# Altium schematic symbol library transistor.SCHLIB: 219 symbols
Pins are listed as number, name and electrical type; pins without a type are passive.

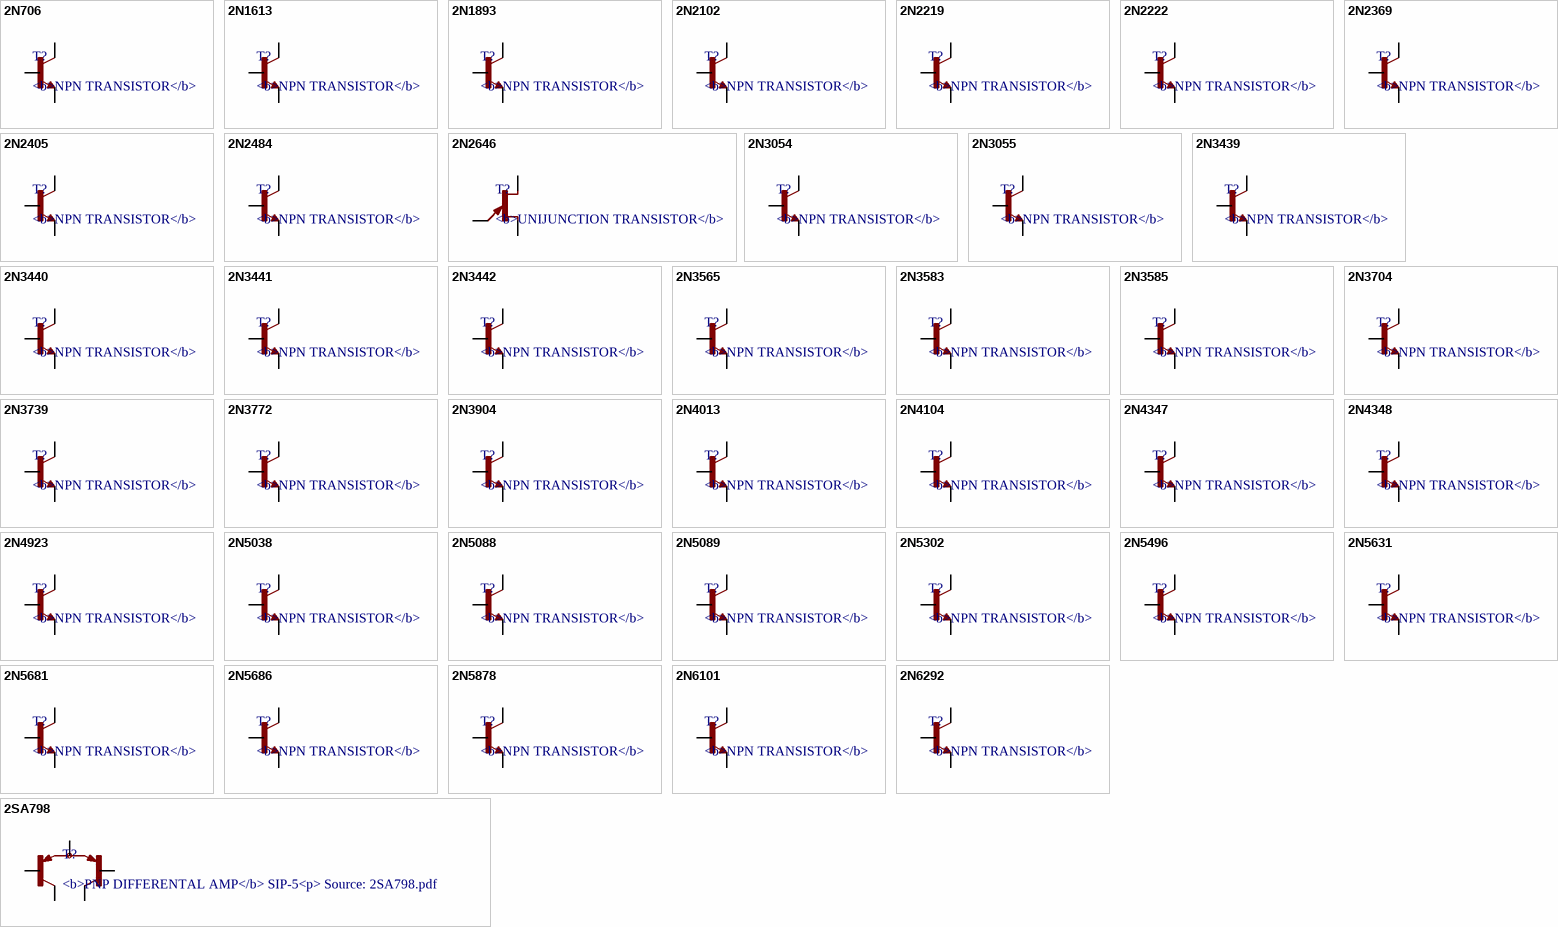
[diagram p0: symbols 2N706 to 2SA798]

## 2N706
designator T?, comment <b>NPN TRANSISTOR</b>
footprint TO18
pins: 1 E, 2 B, 3 C

## 2N1613
designator T?, comment <b>NPN TRANSISTOR</b>
footprint TO5
pins: 1 E, 2 B, 3 C

## 2N1893
designator T?, comment <b>NPN TRANSISTOR</b>
footprint TO5
pins: 1 E, 2 B, 3 C

## 2N2102
designator T?, comment <b>NPN TRANSISTOR</b>
footprint TO5
pins: 1 E, 2 B, 3 C

## 2N2219
designator T?, comment <b>NPN TRANSISTOR</b>
footprint TO5
pins: 1 E, 2 B, 3 C

## 2N2222
designator T?, comment <b>NPN TRANSISTOR</b>
footprint TO18
pins: 1 E, 2 B, 3 C

## 2N2369
designator T?, comment <b>NPN TRANSISTOR</b>
footprint TO18
pins: 1 E, 2 B, 3 C

## 2N2405
designator T?, comment <b>NPN TRANSISTOR</b>
footprint TO5
pins: 1 E, 2 B, 3 C

## 2N2484
designator T?, comment <b>NPN TRANSISTOR</b>
footprint TO18
pins: 1 E, 2 B, 3 C

## 2N2646
designator T?, comment <b>UNIJUNCTION TRANSISTOR</b>
footprint TO72
pins: 1 E, 2 B1, 4 B2

## 2N3054
designator T?, comment <b>NPN TRANSISTOR</b>
footprint TO66
pins: 1 E, 2 B, 3 TO66 C

## 2N3055
designator T?, comment <b>NPN TRANSISTOR</b>
footprint TO3
pins: B, C C/ C, E

## 2N3439
designator T?, comment <b>NPN TRANSISTOR</b>
footprint TO5
pins: 1 E, 2 B, 3 C

## 2N3440
designator T?, comment <b>NPN TRANSISTOR</b>
footprint TO5
pins: 1 E, 2 B, 3 C

## 2N3441
designator T?, comment <b>NPN TRANSISTOR</b>
footprint TO66
pins: 1 E, 2 B, 3 TO66 C

## 2N3442
designator T?, comment <b>NPN TRANSISTOR</b>
footprint TO3
pins: B, C C/ C, E

## 2N3565
designator T?, comment <b>NPN TRANSISTOR</b>
footprint TO92
pins: 1 C, 2 B, 3 E

## 2N3583
designator T?, comment <b>NPN TRANSISTOR</b>
footprint TO66
pins: 1 E, 2 B, 3 TO66 C

## 2N3585
designator T?, comment <b>NPN TRANSISTOR</b>
footprint TO66
pins: 1 E, 2 B, 3 TO66 C

## 2N3704
designator T?, comment <b>NPN TRANSISTOR</b>
footprint TO92
pins: 1 B, 2 C, 3 E

## 2N3739
designator T?, comment <b>NPN TRANSISTOR</b>
footprint TO66
pins: 1 E, 2 B, 3 TO66 C

## 2N3772
designator T?, comment <b>NPN TRANSISTOR</b>
footprint TO3
pins: B, C C/ C, E

## 2N3904
designator T?, comment <b>NPN TRANSISTOR</b>
footprint TO92
pins: 1 C, 2 B, 3 E

## 2N4013
designator T?, comment <b>NPN TRANSISTOR</b>
footprint TO18
pins: 1 E, 2 B, 3 C

## 2N4104
designator T?, comment <b>NPN TRANSISTOR</b>
footprint TO18
pins: 1 E, 2 B, 3 C

## 2N4347
designator T?, comment <b>NPN TRANSISTOR</b>
footprint TO3
pins: B, C C/ C, E

## 2N4348
designator T?, comment <b>NPN TRANSISTOR</b>
footprint TO3
pins: B, C C/ C, E

## 2N4923
designator T?, comment <b>NPN TRANSISTOR</b>
footprint TO126
pins: 1 E, 2 C, 3 B

## 2N5038
designator T?, comment <b>NPN TRANSISTOR</b>
footprint TO3
pins: B, C C/ C, E

## 2N5088
designator T?, comment <b>NPN TRANSISTOR</b>
footprint TO92
pins: 1 C, 2 B, 3 E

## 2N5089
designator T?, comment <b>NPN TRANSISTOR</b>
footprint TO92
pins: 1 C, 2 B, 3 E

## 2N5302
designator T?, comment <b>NPN TRANSISTOR</b>
footprint TO3
pins: B, C C/ C, E

## 2N5496
designator T?, comment <b>NPN TRANSISTOR</b>
footprint TO220
pins: 1 B, 2 C, 3 E

## 2N5631
designator T?, comment <b>NPN TRANSISTOR</b>
footprint TO3
pins: B, C C/ C, E

## 2N5681
designator T?, comment <b>NPN TRANSISTOR</b>
footprint TO5
pins: 1 E, 2 B, 3 C

## 2N5686
designator T?, comment <b>NPN TRANSISTOR</b>
footprint TO3
pins: B, C C/ C, E

## 2N5878
designator T?, comment <b>NPN TRANSISTOR</b>
footprint TO3
pins: B, C C/ C, E

## 2N6101
designator T?, comment <b>NPN TRANSISTOR</b>
footprint TO220
pins: 1 B, 2 C, 3 E

## 2N6292
designator T?, comment <b>NPN TRANSISTOR</b>
footprint TO220
pins: 1 B, 2 C, 3 E

## 2SA798
designator T?, comment <b>PNP DIFFERENTAL AMP</b> SIP-5<p> / Source: 2SA798.pdf
footprint SIP-5
pins: 1 C1, 2 B1, 3 E, 4 B2, 5 C2

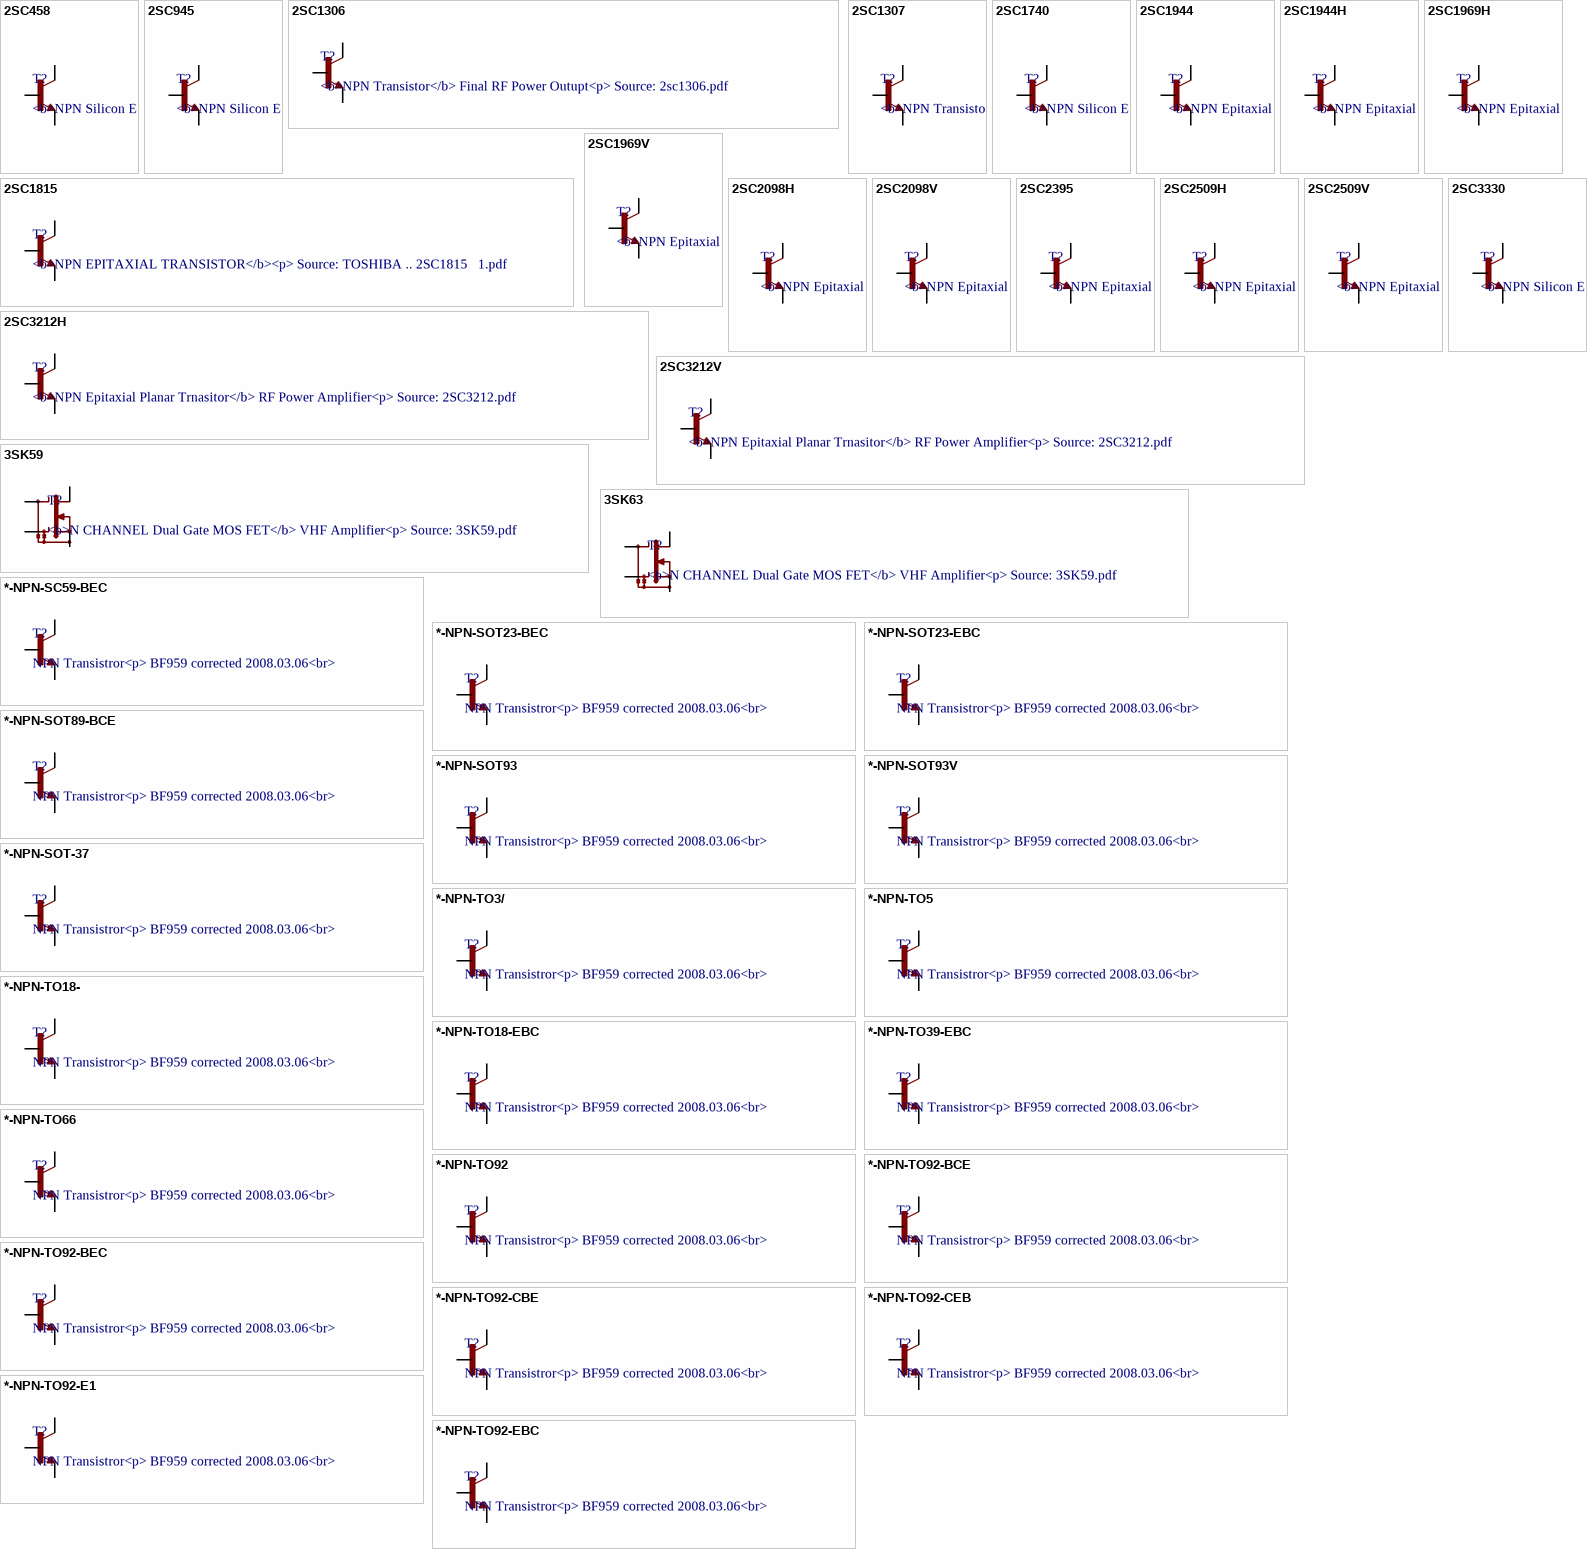
[diagram p1: symbols 2SC458 to *-NPN-TO92-EBC]

## 2SC458
designator T?, comment <b>NPN Silicon Epitaxial Planar Transistor</b><p> / Source: SEMTECH ELECTRONICS LTD. ... 2SC458  1.pdf
footprint TO92-ECB
pins: B, C, E

## 2SC945
designator T?, comment <b>NPN Silicon Epitaxial Planar Transistor</b><p> / Source: SEMTECH ELECTRONICS LTD. ... 2SC945  2.pdf
footprint TO92-ECB
pins: B, C, E

## 2SC1306
designator T?, comment <b>NPN Transistor</b> Final RF Power Outupt<p> / Source: 2sc1306.pdf
footprint TO220BV
pins: 1 B, 2 C, 3 E

## 2SC1307
designator T?, comment <b>NPN Transistor</b> Silicon Epitaxial, High Frequency Power Amplifier<p> / Source: 2SC1307.pdf
footprint TO220AV
pins: 1 B, 2 C, 3 E

## 2SC1740
designator T?, comment <b>NPN Silicon Epitaxial Planar Transistor</b><p> / Source: SEMTECH ELECTRONICS LTD. 2SC1740.pdf
footprint TO92-ECB
pins: B, C, E

## 2SC1815
designator T?, comment <b>NPN EPITAXIAL TRANSISTOR</b><p> / Source: TOSHIBA .. 2SC1815   1.pdf
footprint TO92-ECB
pins: B, C, E

## 2SC1944
designator T?, comment <b>NPN Epitaxial Planar Transistor</b> RF Power Amplifier<p> / Source: 2SC1944.pdf
footprint T-30_V
pins: 1 B, 2 C, 3 E

## 2SC1944H
designator T?, comment <b>NPN Epitaxial Planar Transistor</b> RF Power Amplifier<p> / Source: 2SC1944.pdf
footprint T-30
pins: 1 B, 2 C, 3 E

## 2SC1969H
designator T?, comment <b>NPN Epitaxial Planar Transistor</b> RF Power Amplifier<p> / Source: 2sc1969.pdf
footprint T-30
pins: 1 B, 2 C, 3 E

## 2SC1969V
designator T?, comment <b>NPN Epitaxial Planar Transistor</b> RF Power Amplifier<p> / Source: 2sc1969.pdf
footprint T-30_V
pins: 1 B, 2 C, 3 E

## 2SC2098H
designator T?, comment <b>NPN Epitaxial Planar Transistor</b> RF Power Amplivier<p> / Source: 2SC2098.pdf
footprint TO220
pins: 1 B, 2 C, 3 E

## 2SC2098V
designator T?, comment <b>NPN Epitaxial Planar Transistor</b> RF Power Amplivier<p> / Source: 2SC2098.pdf
footprint TO220AV
pins: 1 B, 2 C, 3 E

## 2SC2395
designator T?, comment <b>NPN Epitaxial Planar Transistor</b> RF Power Amplivier<p> / Source: 2SC2395.pdf
footprint 2-10H1A
pins: 1 3 E, 2 B, 4 C

## 2SC2509H
designator T?, comment <b>NPN Epitaxial Planar Transistor</b> RF Power Amplivier<p> / Source: www.Datasheet4U.com 2SC2905.pdf
footprint TO220
pins: 1 B, 2 C, 3 E

## 2SC2509V
designator T?, comment <b>NPN Epitaxial Planar Transistor</b> RF Power Amplivier<p> / Source: www.Datasheet4U.com 2SC2905.pdf
footprint TO220AV
pins: 1 B, 2 C, 3 E

## 2SC3212H
designator T?, comment <b>NPN Epitaxial Planar Trnasitor</b> RF Power Amplifier<p> / Source: 2SC3212.pdf
footprint TO220
pins: 1 B, 2 C, 3 E

## 2SC3212V
designator T?, comment <b>NPN Epitaxial Planar Trnasitor</b> RF Power Amplifier<p> / Source: 2SC3212.pdf
footprint TO220AV
pins: 1 B, 2 C, 3 E

## 2SC3330
designator T?, comment <b>NPN Silicon Epitaxial Planar Transistor</b><p> / Source: SEMTECH ELECTRONICS LTD. ... 2SC3330 .pdf
footprint TO92-ECB
pins: B, C, E

## 3SK59
designator T?, comment <b>N CHANNEL Dual Gate MOS FET</b> VHF Amplifier<p> / Source: 3SK59.pdf
footprint TO72
pins: 1 DRAIN, 2 G2, 3 G1, 4 SOURCE

## 3SK63
designator T?, comment <b>N CHANNEL Dual Gate MOS FET</b> VHF Amplifier<p> / Source: 3SK59.pdf
footprint TO72
pins: 1 DRAIN, 2 G2, 3 G1, 4 SOURCE

## *-NPN-SC59-BEC
designator T?, comment NPN Transistror<p> / BF959 corrected 2008.03.06<br>
footprint SC59-BEC
pins: B, C, E

## *-NPN-SOT23-BEC
designator T?, comment NPN Transistror<p> / BF959 corrected 2008.03.06<br>
footprint SOT23-BEC
pins: B, C, E

## *-NPN-SOT23-EBC
designator T?, comment NPN Transistror<p> / BF959 corrected 2008.03.06<br>
footprint SOT23-EBC
pins: B, C, E

## *-NPN-SOT89-BCE
designator T?, comment NPN Transistror<p> / BF959 corrected 2008.03.06<br>
footprint SOT89-BCE
pins: B, C, E

## *-NPN-SOT93
designator T?, comment NPN Transistror<p> / BF959 corrected 2008.03.06<br>
footprint SOT93
pins: B, C, E

## *-NPN-SOT93V
designator T?, comment NPN Transistror<p> / BF959 corrected 2008.03.06<br>
footprint SOT93V
pins: B, C, E

## *-NPN-SOT-37
designator T?, comment NPN Transistror<p> / BF959 corrected 2008.03.06<br>
footprint SOT37
pins: 1 C, 2 E, 3 B

## *-NPN-TO3/
designator T?, comment NPN Transistror<p> / BF959 corrected 2008.03.06<br>
footprint TO3
pins: B, C, E

## *-NPN-TO5
designator T?, comment NPN Transistror<p> / BF959 corrected 2008.03.06<br>
footprint TO5
pins: 1 E, 2 B, 3 C

## *-NPN-TO18-
designator T?, comment NPN Transistror<p> / BF959 corrected 2008.03.06<br>
footprint TO18-
pins: 1 E, 2 B, 3 C

## *-NPN-TO18-EBC
designator T?, comment NPN Transistror<p> / BF959 corrected 2008.03.06<br>
footprint TO18
pins: 1 E, 2 B, 3 C

## *-NPN-TO39-EBC
designator T?, comment NPN Transistror<p> / BF959 corrected 2008.03.06<br>
footprint TO39
pins: 1 E, 2 B, 3 C

## *-NPN-TO66
designator T?, comment NPN Transistror<p> / BF959 corrected 2008.03.06<br>
footprint TO66
pins: 1 E, 2 B, 3 C

## *-NPN-TO92
designator T?, comment NPN Transistror<p> / BF959 corrected 2008.03.06<br>
footprint TO92
pins: 1 E, 2 B, 3 C

## *-NPN-TO92-BCE
designator T?, comment NPN Transistror<p> / BF959 corrected 2008.03.06<br>
footprint TO92-BCE
pins: B, C, E

## *-NPN-TO92-BEC
designator T?, comment NPN Transistror<p> / BF959 corrected 2008.03.06<br>
footprint TO92-BEC
pins: B, C, E

## *-NPN-TO92-CBE
designator T?, comment NPN Transistror<p> / BF959 corrected 2008.03.06<br>
footprint TO92-CBE
pins: B, C, E

## *-NPN-TO92-CEB
designator T?, comment NPN Transistror<p> / BF959 corrected 2008.03.06<br>
footprint TO92-CEB
pins: B, C, E

## *-NPN-TO92-E1
designator T?, comment NPN Transistror<p> / BF959 corrected 2008.03.06<br>
footprint TO92-E1
pins: 1 C, 2 B, 3 E

## *-NPN-TO92-EBC
designator T?, comment NPN Transistror<p> / BF959 corrected 2008.03.06<br>
footprint TO92-EBC
pins: B, C, E

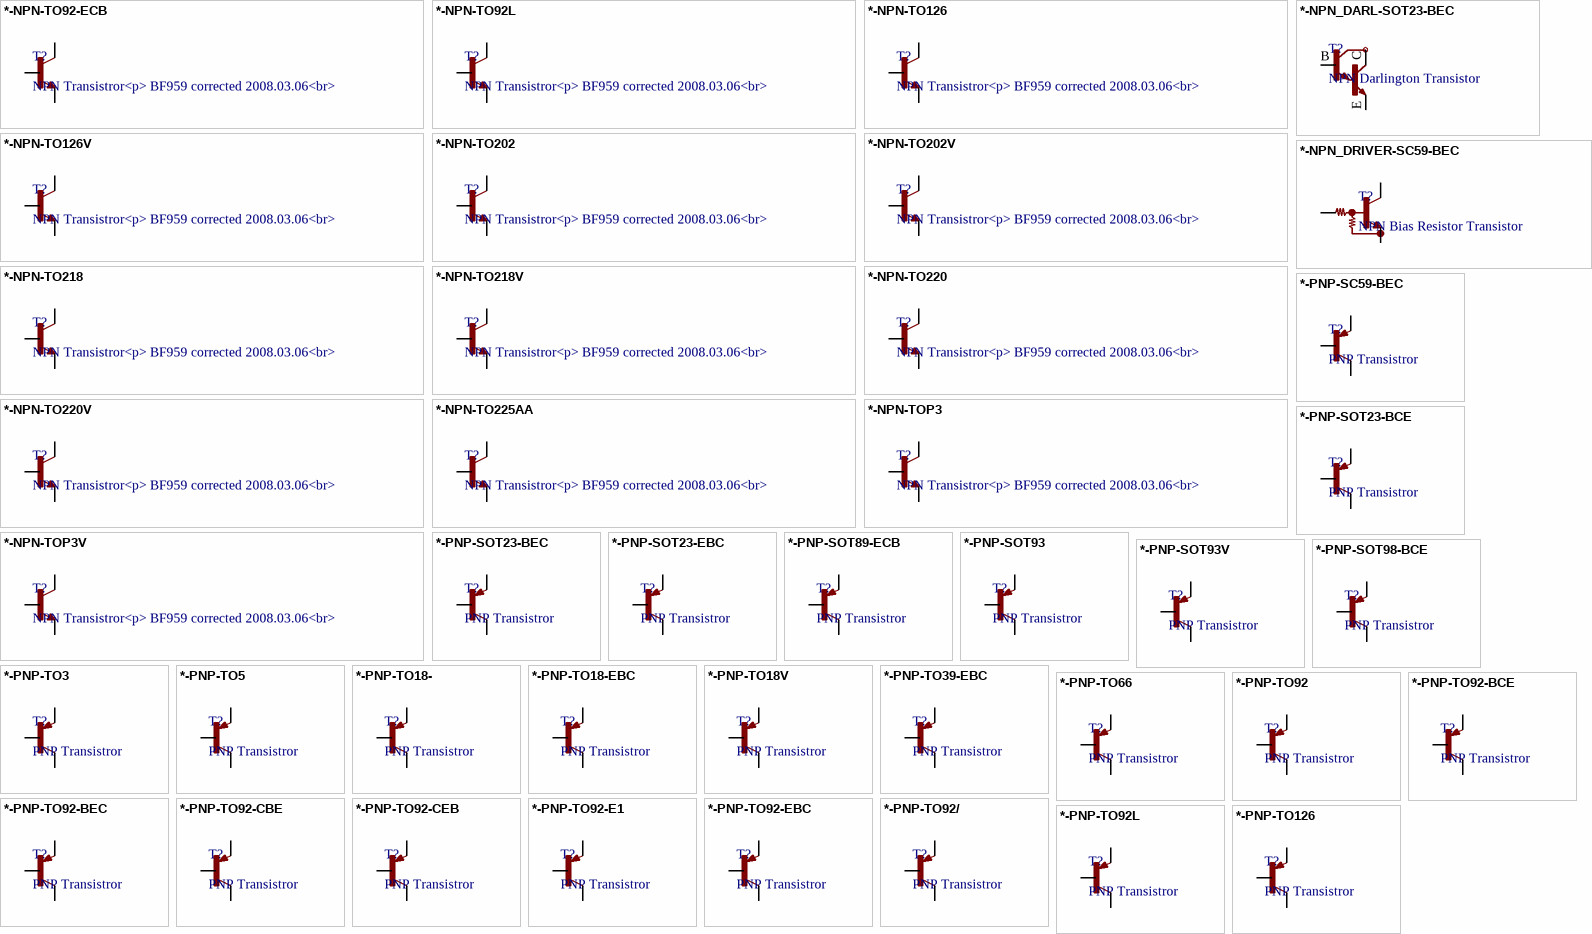
[diagram p2: symbols *-NPN-TO92-ECB to *-PNP-TO126]

## *-NPN-TO92-ECB
designator T?, comment NPN Transistror<p> / BF959 corrected 2008.03.06<br>
footprint TO92-ECB
pins: B, C, E

## *-NPN-TO92L
designator T?, comment NPN Transistror<p> / BF959 corrected 2008.03.06<br>
footprint TO92L
pins: 1 E, 2 B, 3 C

## *-NPN-TO126
designator T?, comment NPN Transistror<p> / BF959 corrected 2008.03.06<br>
footprint TO126
pins: 1 E, 2 C, 3 B

## *-NPN-TO126V
designator T?, comment NPN Transistror<p> / BF959 corrected 2008.03.06<br>
footprint TO126V
pins: 1 E, 2 C, 3 B

## *-NPN-TO202
designator T?, comment NPN Transistror<p> / BF959 corrected 2008.03.06<br>
footprint TO202
pins: 1 E, 2 C, 3 B

## *-NPN-TO202V
designator T?, comment NPN Transistror<p> / BF959 corrected 2008.03.06<br>
footprint TO202V
pins: 1 E, 2 C, 3 B

## *-NPN-TO218
designator T?, comment NPN Transistror<p> / BF959 corrected 2008.03.06<br>
footprint TO218
pins: 1 B, 2 C, 3 E

## *-NPN-TO218V
designator T?, comment NPN Transistror<p> / BF959 corrected 2008.03.06<br>
footprint TO218V
pins: 1 B, 2 C, 3 E

## *-NPN-TO220
designator T?, comment NPN Transistror<p> / BF959 corrected 2008.03.06<br>
footprint TO220
pins: 1 B, 2 C, 3 E

## *-NPN-TO220V
designator T?, comment NPN Transistror<p> / BF959 corrected 2008.03.06<br>
footprint TO220V
pins: 1 B, 2 C, 3 E

## *-NPN-TO225AA
designator T?, comment NPN Transistror<p> / BF959 corrected 2008.03.06<br>
footprint TO225AA
pins: 1 B, 2 C, 3 E

## *-NPN-TOP3
designator T?, comment NPN Transistror<p> / BF959 corrected 2008.03.06<br>
footprint TOP3
pins: 1 B, 2 C, 3 E

## *-NPN-TOP3V
designator T?, comment NPN Transistror<p> / BF959 corrected 2008.03.06<br>
footprint TOP3V
pins: B, C, E

## *-NPN_DARL-SOT23-BEC
designator T?, comment NPN Darlington Transistor
footprint SOT23-BEC
pins: B, C, E

## *-NPN_DRIVER-SC59-BEC
designator T?, comment NPN Bias Resistor Transistor
footprint SC59-BEC
pins: B, C, E

## *-PNP-SC59-BEC
designator T?, comment PNP Transistror
footprint SC59-BEC
pins: B, C, E

## *-PNP-SOT23-BCE
designator T?, comment PNP Transistror
footprint SOT23-BCE
pins: B, C, E

## *-PNP-SOT23-BEC
designator T?, comment PNP Transistror
footprint SOT23-BEC
pins: B, C, E

## *-PNP-SOT23-EBC
designator T?, comment PNP Transistror
footprint SOT23-EBC
pins: B, C, E

## *-PNP-SOT89-ECB
designator T?, comment PNP Transistror
footprint SOT89-ECB
pins: B, C, E

## *-PNP-SOT93
designator T?, comment PNP Transistror
footprint SOT93
pins: B, C, E

## *-PNP-SOT93V
designator T?, comment PNP Transistror
footprint SOT93V
pins: B, C, E

## *-PNP-SOT98-BCE
designator T?, comment PNP Transistror
footprint SOT89-BCE
pins: B, C, E

## *-PNP-TO3
designator T?, comment PNP Transistror
footprint TO3
pins: B, C, E

## *-PNP-TO5
designator T?, comment PNP Transistror
footprint TO5
pins: 1 E, 2 B, 3 C

## *-PNP-TO18-
designator T?, comment PNP Transistror
footprint TO18-
pins: 1 E, 2 B, 3 C

## *-PNP-TO18-EBC
designator T?, comment PNP Transistror
footprint TO18
pins: 1 E, 2 B, 3 C

## *-PNP-TO18V
designator T?, comment PNP Transistror
footprint TO18V
pins: 1 E, 2 B, 3 C

## *-PNP-TO39-EBC
designator T?, comment PNP Transistror
footprint TO39
pins: 1 E, 2 B, 3 C

## *-PNP-TO66
designator T?, comment PNP Transistror
footprint TO66
pins: 1 E, 2 B, 3 C

## *-PNP-TO92
designator T?, comment PNP Transistror
footprint TO92
pins: 1 E, 2 B, 3 C

## *-PNP-TO92-BCE
designator T?, comment PNP Transistror
footprint TO92-BCE
pins: B, C, E

## *-PNP-TO92-BEC
designator T?, comment PNP Transistror
footprint TO92-BEC
pins: B, C, E

## *-PNP-TO92-CBE
designator T?, comment PNP Transistror
footprint TO92-CBE
pins: B, C, E

## *-PNP-TO92-CEB
designator T?, comment PNP Transistror
footprint TO92-CEB
pins: B, C, E

## *-PNP-TO92-E1
designator T?, comment PNP Transistror
footprint TO92-E1
pins: 1 C, 2 B, 3 E

## *-PNP-TO92-EBC
designator T?, comment PNP Transistror
footprint TO92-EBC
pins: B, C, E

## *-PNP-TO92/
designator T?, comment PNP Transistror
footprint TO92/
pins: 1 E, 2 B, 3 C

## *-PNP-TO92L
designator T?, comment PNP Transistror
footprint TO92L
pins: 1 E, 2 B, 3 C

## *-PNP-TO126
designator T?, comment PNP Transistror
footprint TO126
pins: 1 E, 2 C, 3 B

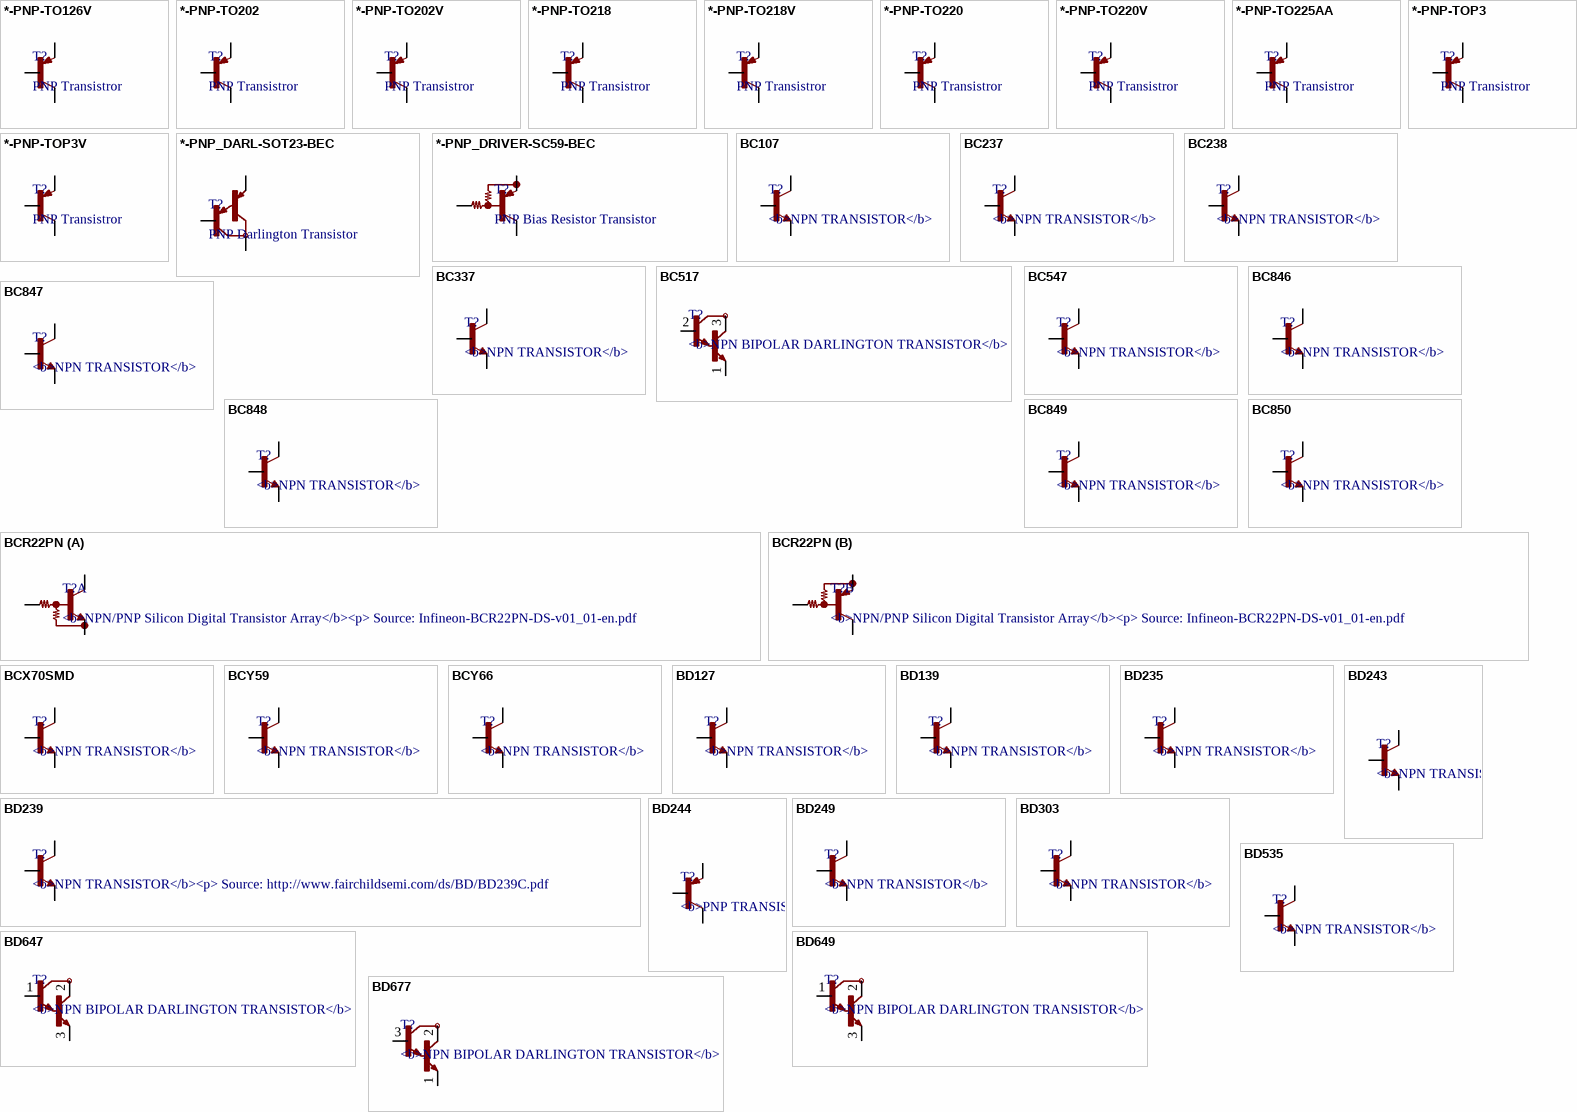
[diagram p3: symbols *-PNP-TO126V to BD677]

## *-PNP-TO126V
designator T?, comment PNP Transistror
footprint TO126V
pins: 1 E, 2 C, 3 B

## *-PNP-TO202
designator T?, comment PNP Transistror
footprint TO202
pins: 1 E, 2 C, 3 B

## *-PNP-TO202V
designator T?, comment PNP Transistror
footprint TO202V
pins: 1 E, 2 C, 3 B

## *-PNP-TO218
designator T?, comment PNP Transistror
footprint TO218
pins: 1 B, 2 C, 3 E

## *-PNP-TO218V
designator T?, comment PNP Transistror
footprint TO218V
pins: 1 B, 2 C, 3 E

## *-PNP-TO220
designator T?, comment PNP Transistror
footprint TO220
pins: 1 B, 2 C, 3 E

## *-PNP-TO220V
designator T?, comment PNP Transistror
footprint TO220V
pins: 1 B, 2 C, 3 E

## *-PNP-TO225AA
designator T?, comment PNP Transistror
footprint TO225AA
pins: 1 B, 2 C, 3 E

## *-PNP-TOP3
designator T?, comment PNP Transistror
footprint TOP3
pins: 1 B, 2 C, 3 E

## *-PNP-TOP3V
designator T?, comment PNP Transistror
footprint TOP3V
pins: B, C, E

## *-PNP_DARL-SOT23-BEC
designator T?, comment PNP Darlington Transistor
footprint SOT23-BEC
pins: B, C, E

## *-PNP_DRIVER-SC59-BEC
designator T?, comment PNP Bias Resistor Transistor
footprint SC59-BEC
pins: B, C, E

## BC107
designator T?, comment <b>NPN TRANSISTOR</b>
footprint TO18
pins: 1 E, 2 B, 3 C

## BC237
designator T?, comment <b>NPN TRANSISTOR</b>
footprint TO92
pins: 1 E, 2 B, 3 C

## BC238
designator T?, comment <b>NPN TRANSISTOR</b>
footprint TO92
pins: 1 E, 2 B, 3 C

## BC337
designator T?, comment <b>NPN TRANSISTOR</b>
footprint TO92
pins: 1 E, 2 B, 3 C

## BC517
designator T?, comment <b>NPN BIPOLAR DARLINGTON TRANSISTOR</b>
footprint TO92
pins: 1 E, 2 B, 3 C

## BC547
designator T?, comment <b>NPN TRANSISTOR</b>
footprint TO92
pins: 1 E, 2 B, 3 C

## BC846
designator T?, comment <b>NPN TRANSISTOR</b>
footprint SOT23
pins: 1 B, 2 E, 3 C

## BC847
designator T?, comment <b>NPN TRANSISTOR</b>
footprint SOT23
pins: 1 B, 2 E, 3 C

## BC848
designator T?, comment <b>NPN TRANSISTOR</b>
footprint SOT23
pins: 1 B, 2 E, 3 C

## BC849
designator T?, comment <b>NPN TRANSISTOR</b>
footprint SOT23
pins: 1 B, 2 E, 3 C

## BC850
designator T?, comment <b>NPN TRANSISTOR</b>
footprint SOT23
pins: 1 B, 2 E, 3 C

## BCR22PN
designator T?, comment <b>NPN/PNP Silicon Digital Transistor Array</b><p> / Source: Infineon-BCR22PN-DS-v01_01-en.pdf
footprint SOT363-INFINION
part A pins: 1 E, 2 B, 6 C
part B pins: 3 C, 4 E, 5 B

## BCX70SMD
designator T?, comment <b>NPN TRANSISTOR</b>
footprint SOT23
pins: 1 B, 2 E, 3 C

## BCY59
designator T?, comment <b>NPN TRANSISTOR</b>
footprint TO18
pins: 1 E, 2 B, 3 C

## BCY66
designator T?, comment <b>NPN TRANSISTOR</b>
footprint TO18
pins: 1 E, 2 B, 3 C

## BD127
designator T?, comment <b>NPN TRANSISTOR</b>
footprint TO126
pins: 1 E, 2 C, 3 B

## BD139
designator T?, comment <b>NPN TRANSISTOR</b>
footprint TO126
pins: 1 E, 2 C, 3 B

## BD235
designator T?, comment <b>NPN TRANSISTOR</b>
footprint TO126
pins: 1 E, 2 C, 3 B

## BD239
designator T?, comment <b>NPN TRANSISTOR</b><p> / Source: http://www.fairchildsemi.com/ds/BD/BD239C.pdf
footprint TO220
pins: 1 B, 2 C, 3 E

## BD243
designator T?, comment <b>NPN TRANSISTOR</b><p> / Source: Motorola Semiconductor, Master Selection Guide<br> / Q3/95 SG73 REV 8 page 5.5-4
footprint TO220
pins: 1 B, 2 C, 3 E

## BD244
designator T?, comment <b>PNP TRANSISTOR</b><p> / Source: Motorola Semiconductor, Master Selection Guide<br> / Q3/95 SG73 REV 8 page 5.5-5
footprint TO220
pins: 1 B, 2 C, 3 E

## BD249
designator T?, comment <b>NPN TRANSISTOR</b>
footprint TOP3
pins: 1 B, 2 C, 3 E

## BD303
designator T?, comment <b>NPN TRANSISTOR</b>
footprint TO220
pins: 1 B, 2 C, 3 E

## BD535
designator T?, comment <b>NPN TRANSISTOR</b>
footprint TO220
pins: 1 E, 2 C, 3 B

## BD647
designator T?, comment <b>NPN BIPOLAR DARLINGTON TRANSISTOR</b>
footprint TO220
pins: 1 B, 2 C, 3 E

## BD649
designator T?, comment <b>NPN BIPOLAR DARLINGTON TRANSISTOR</b>
footprint TO220
pins: 1 B, 2 C, 3 E

## BD677
designator T?, comment <b>NPN BIPOLAR DARLINGTON TRANSISTOR</b>
footprint TO126
pins: 1 E, 2 C, 3 B

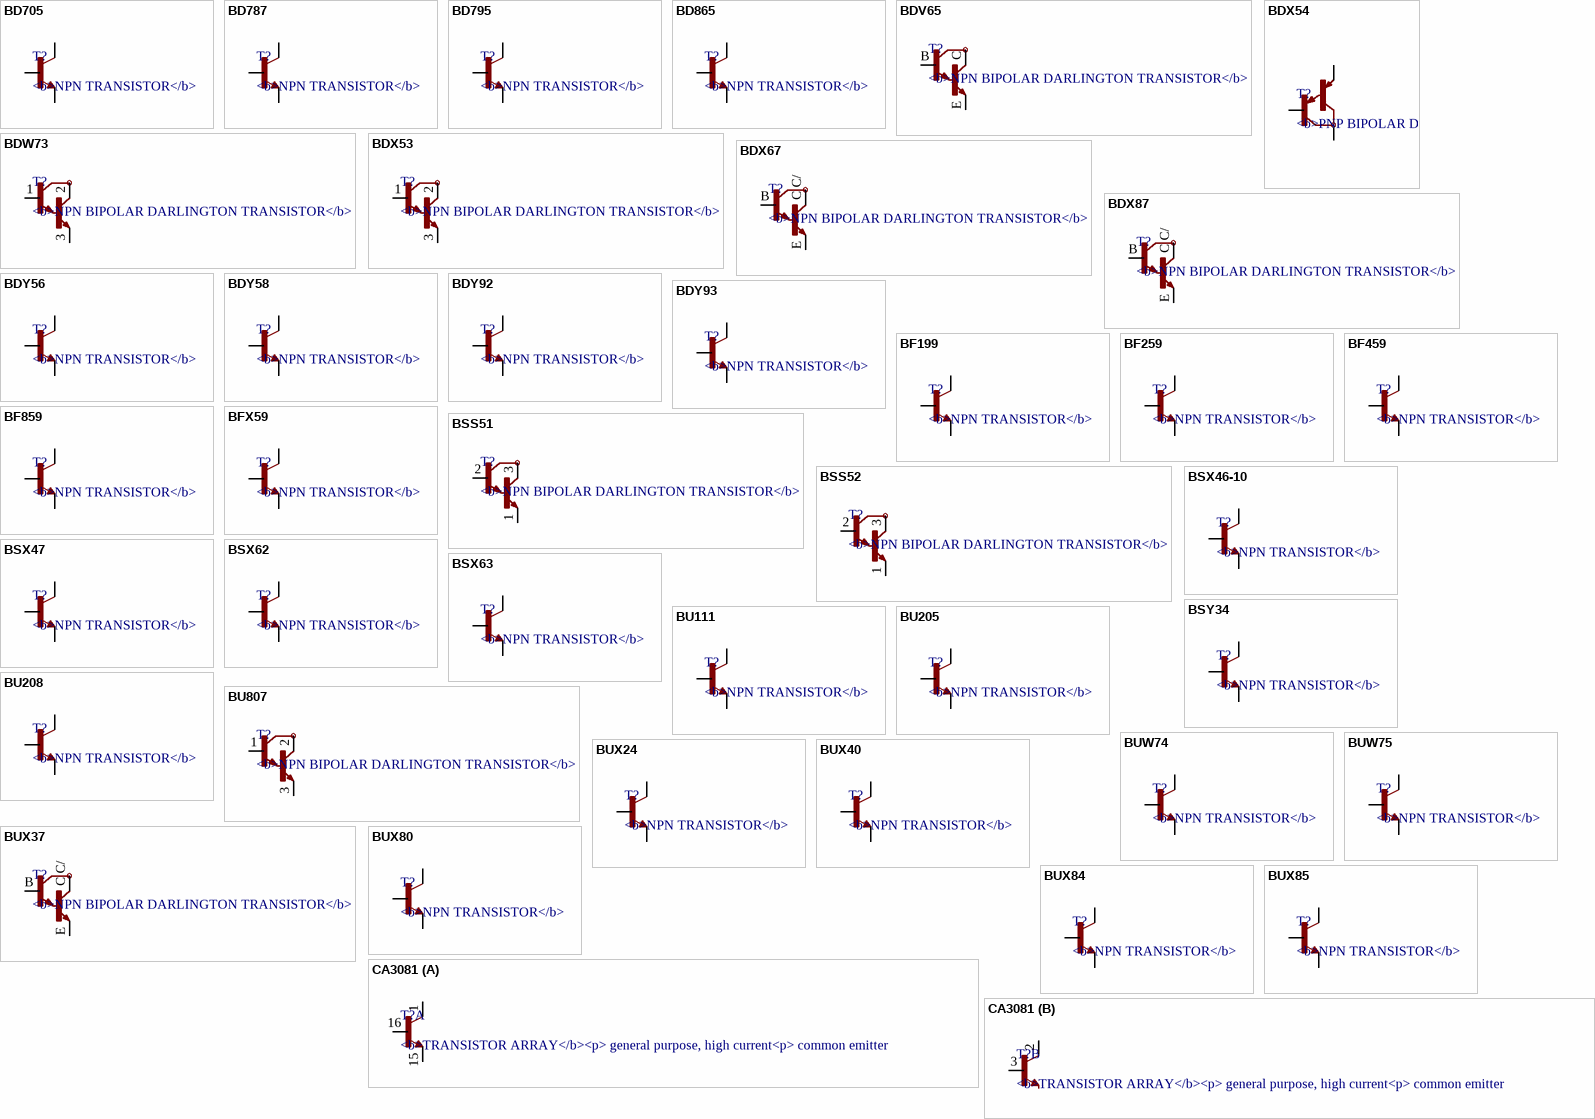
[diagram p4: symbols BD705 to CA3081]

## BD705
designator T?, comment <b>NPN TRANSISTOR</b>
footprint TO220
pins: 1 B, 2 C, 3 E

## BD787
designator T?, comment <b>NPN TRANSISTOR</b>
footprint TO126
pins: 1 E, 2 C, 3 B

## BD795
designator T?, comment <b>NPN TRANSISTOR</b>
footprint TO220
pins: 1 E, 2 C, 3 B

## BD865
designator T?, comment <b>NPN TRANSISTOR</b>
footprint TO202
pins: 1 E, 2 C, 3 B

## BDV65
designator T?, comment <b>NPN BIPOLAR DARLINGTON TRANSISTOR</b>
footprint SOT93
pins: B, C, E

## BDW73
designator T?, comment <b>NPN BIPOLAR DARLINGTON TRANSISTOR</b>
footprint TO220
pins: 1 B, 2 C, 3 E

## BDX53
designator T?, comment <b>NPN BIPOLAR DARLINGTON TRANSISTOR</b>
footprint TO220
pins: 1 B, 2 C, 3 E

## BDX54
designator T?, comment <b>PNP BIPOLAR DARLINGTON TRANSISTOR</b><p> / Source: http://www.datasheetcatalog.org/datasheet/mospec/BDX54.pdf
footprint TO220
pins: 1 B, 2 C, 3 E

## BDX67
designator T?, comment <b>NPN BIPOLAR DARLINGTON TRANSISTOR</b>
footprint TO3
pins: B, C C/ C, E

## BDX87
designator T?, comment <b>NPN BIPOLAR DARLINGTON TRANSISTOR</b>
footprint TO3
pins: B, C C/ C, E

## BDY56
designator T?, comment <b>NPN TRANSISTOR</b>
footprint TO3
pins: B, C C/ C, E

## BDY58
designator T?, comment <b>NPN TRANSISTOR</b>
footprint TO3
pins: B, C C/ C, E

## BDY92
designator T?, comment <b>NPN TRANSISTOR</b>
footprint TO3
pins: B, C C/ C, E

## BDY93
designator T?, comment <b>NPN TRANSISTOR</b>
footprint TO3
pins: B, C C/ C, E

## BF199
designator T?, comment <b>NPN TRANSISTOR</b>
footprint TO92
pins: 1 B, 2 E, 3 C

## BF259
designator T?, comment <b>NPN TRANSISTOR</b>
footprint TO39
pins: 1 E, 2 B, 3 C

## BF459
designator T?, comment <b>NPN TRANSISTOR</b>
footprint TO126
pins: 1 E, 2 C, 3 B

## BF859
designator T?, comment <b>NPN TRANSISTOR</b>
footprint TO202
pins: 1 E, 2 C, 3 B

## BFX59
designator T?, comment <b>NPN TRANSISTOR</b>
footprint TO72
pins: 1 E, 2 B, 3 C

## BSS51
designator T?, comment <b>NPN BIPOLAR DARLINGTON TRANSISTOR</b>
footprint TO39
pins: 1 E, 2 B, 3 C

## BSS52
designator T?, comment <b>NPN BIPOLAR DARLINGTON TRANSISTOR</b>
footprint TO39
pins: 1 E, 2 B, 3 C

## BSX46-10
designator T?, comment <b>NPN TRANSISTOR</b>
footprint TO39
pins: 1 E, 2 B, 3 C

## BSX47
designator T?, comment <b>NPN TRANSISTOR</b>
footprint TO39
pins: 1 E, 2 B, 3 C

## BSX62
designator T?, comment <b>NPN TRANSISTOR</b>
footprint TO39
pins: 1 E, 2 B, 3 C

## BSX63
designator T?, comment <b>NPN TRANSISTOR</b>
footprint TO39
pins: 1 E, 2 B, 3 C

## BSY34
designator T?, comment <b>NPN TRANSISTOR</b>
footprint TO39
pins: 1 E, 2 B, 3 C

## BU111
designator T?, comment <b>NPN TRANSISTOR</b>
footprint TO3
pins: B, C C/ C, E

## BU205
designator T?, comment <b>NPN TRANSISTOR</b>
footprint TO3
pins: B, C C/ C, E

## BU208
designator T?, comment <b>NPN TRANSISTOR</b>
footprint TO3
pins: B, C C/ C, E

## BU807
designator T?, comment <b>NPN BIPOLAR DARLINGTON TRANSISTOR</b>
footprint TO220
pins: 1 B, 2 C, 3 E

## BUW74
designator T?, comment <b>NPN TRANSISTOR</b>
footprint TO3
pins: B, C C/ C, E

## BUW75
designator T?, comment <b>NPN TRANSISTOR</b>
footprint TO3
pins: B, C C/ C, E

## BUX24
designator T?, comment <b>NPN TRANSISTOR</b>
footprint TO3
pins: B, C C/ C, E

## BUX37
designator T?, comment <b>NPN BIPOLAR DARLINGTON TRANSISTOR</b>
footprint TO3
pins: B, C C/ C, E

## BUX40
designator T?, comment <b>NPN TRANSISTOR</b>
footprint TO3
pins: B, C C/ C, E

## BUX80
designator T?, comment <b>NPN TRANSISTOR</b>
footprint TO3
pins: B, C C/ C, E

## BUX84
designator T?, comment <b>NPN TRANSISTOR</b>
footprint TO220
pins: 1 B, 2 C, 3 E

## BUX85
designator T?, comment <b>NPN TRANSISTOR</b>
footprint TO220
pins: 1 B, 2 C, 3 E

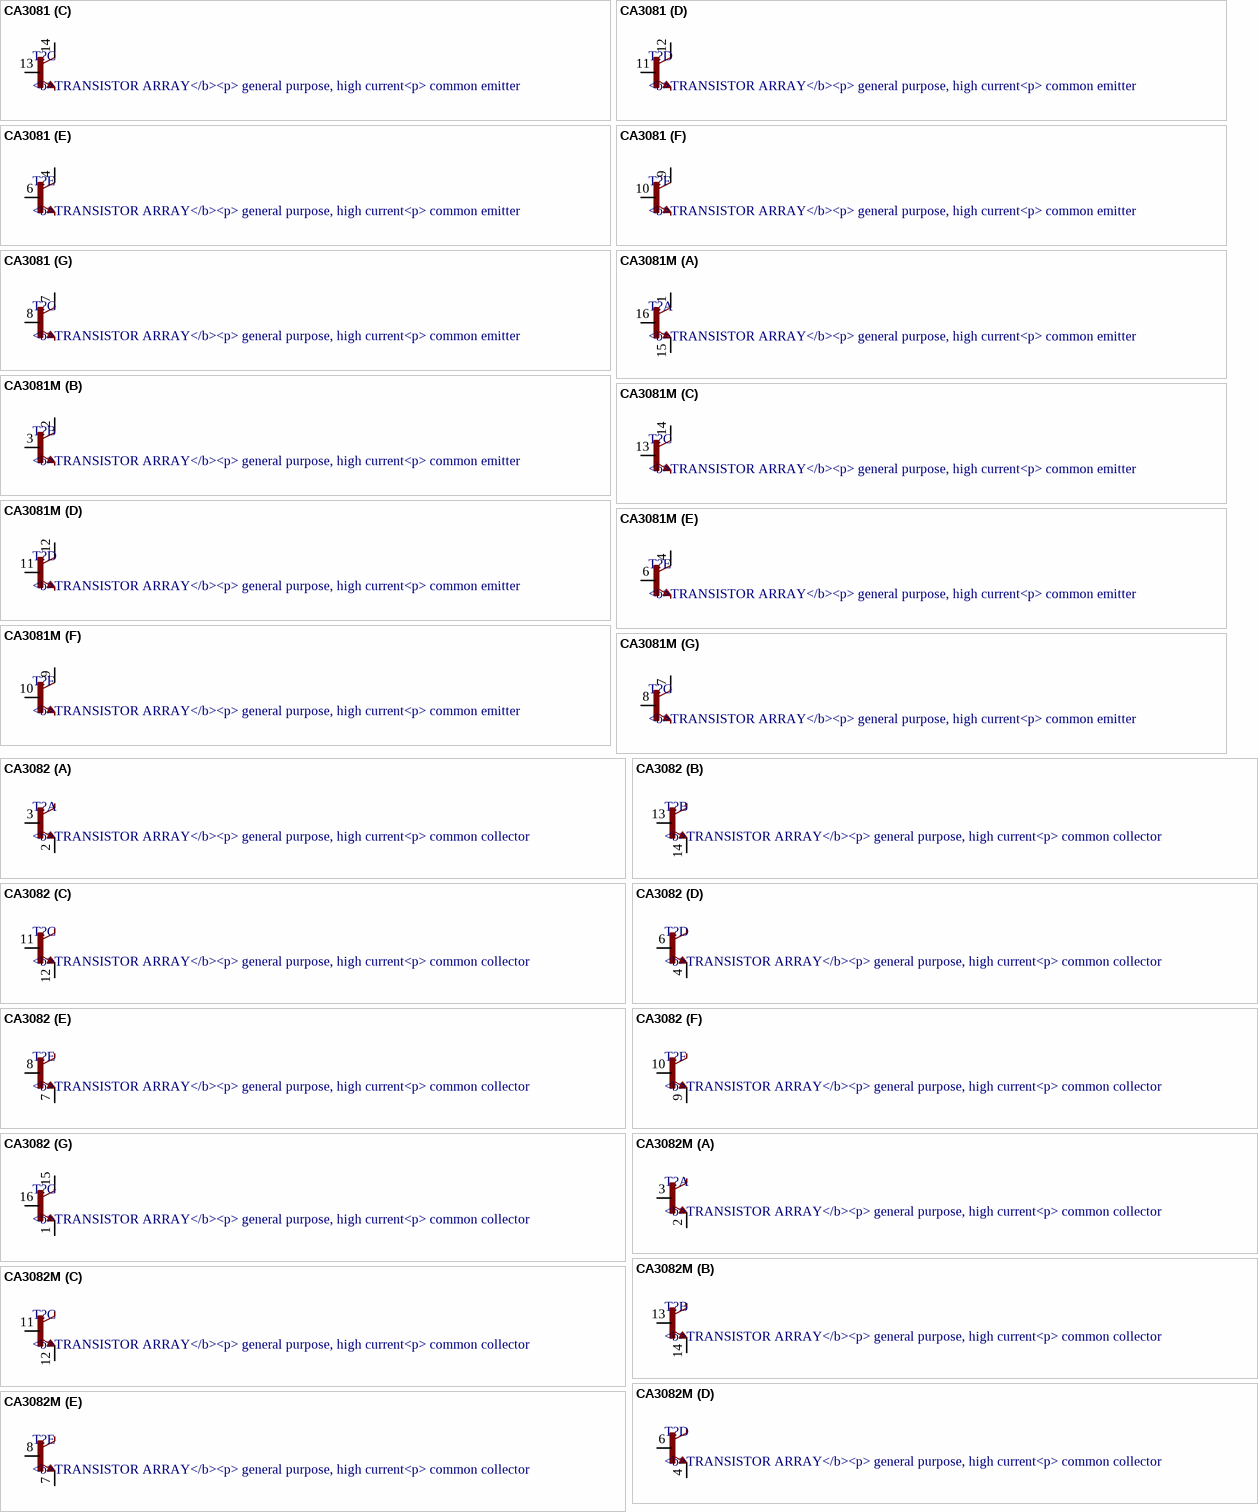
[diagram p5: symbols CA3081 to CA3082M]

## CA3081
designator T?, comment <b>TRANSISTOR ARRAY</b><p> / general purpose, high current<p> / common emitter
footprint DIL16
part A pins: 1 C, 15 E, 16 B
part B pins: 2 C, 3 B
part C pins: 13 B, 14 C
part D pins: 11 B, 12 C
part E pins: 4 C, 6 B
part F pins: 9 C, 10 B
part G pins: 7 C, 8 B

## CA3081M
designator T?, comment <b>TRANSISTOR ARRAY</b><p> / general purpose, high current<p> / common emitter
footprint SO16
part A pins: 1 C, 15 E, 16 B
part B pins: 2 C, 3 B
part C pins: 13 B, 14 C
part D pins: 11 B, 12 C
part E pins: 4 C, 6 B
part F pins: 9 C, 10 B
part G pins: 7 C, 8 B

## CA3082
designator T?, comment <b>TRANSISTOR ARRAY</b><p> / general purpose, high current<p> / common collector
footprint DIL16
part A pins: 2 E, 3 B
part B pins: 13 B, 14 E
part C pins: 11 B, 12 E
part D pins: 4 E, 6 B
part E pins: 7 E, 8 B
part F pins: 9 E, 10 B
part G pins: 1 E, 15 C, 16 B

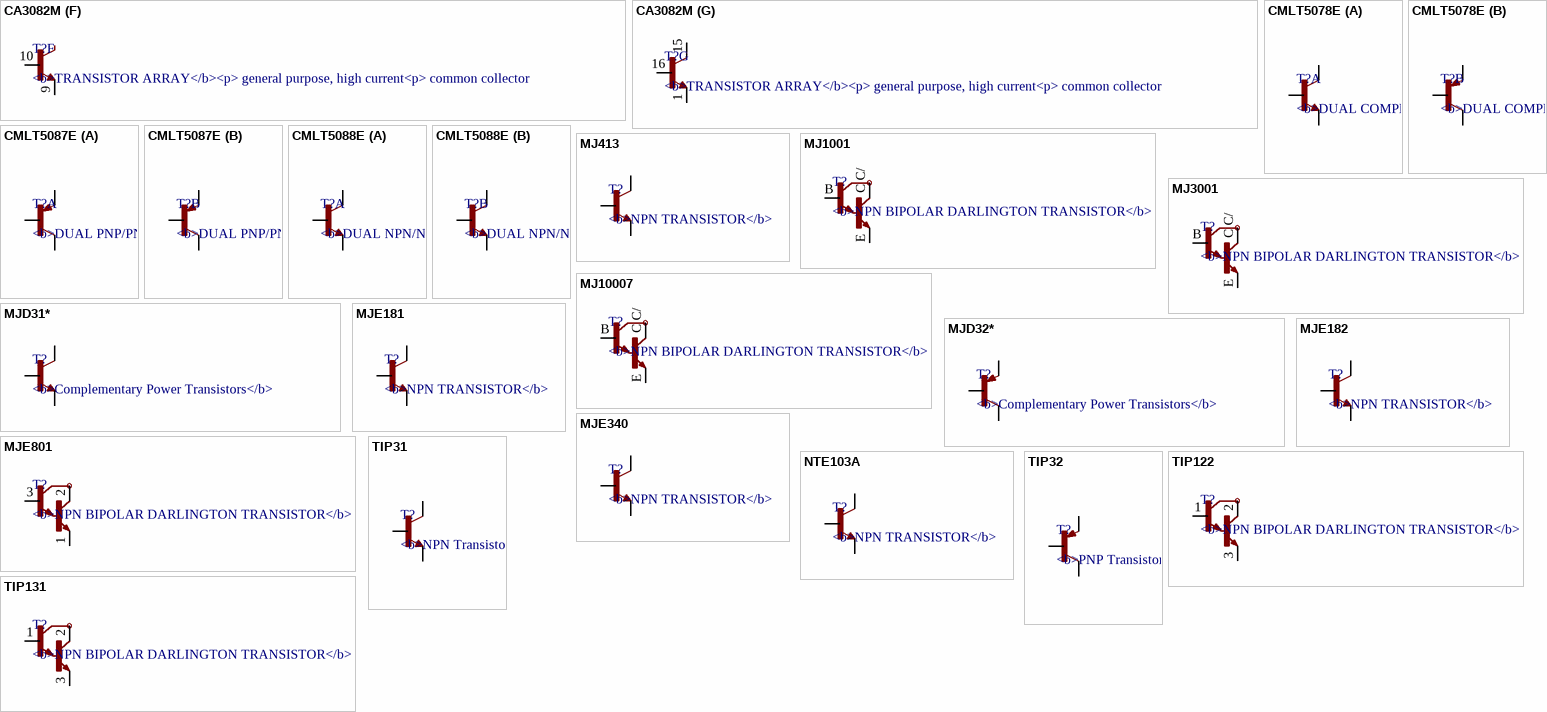
[diagram p6: symbols CA3082M to TIP131]

## CA3082M
designator T?, comment <b>TRANSISTOR ARRAY</b><p> / general purpose, high current<p> / common collector
footprint SO16
part A pins: 2 E, 3 B
part B pins: 13 B, 14 E
part C pins: 11 B, 12 E
part D pins: 4 E, 6 B
part E pins: 7 E, 8 B
part F pins: 9 E, 10 B
part G pins: 1 E, 15 C, 16 B

## CMLT5078E
designator T?, comment <b>DUAL COMPLEMENTARY: L78 TRANSISTORS</b> ENHANCED SPECIFICATION PICOmini(TM) SURFACE MOUNT<p> / Source: CMLT5078%20SERIES.pdf
footprint SOT563
part A pins: 1 E, 2 B, 6 C
part B pins: 3 C, 4 E, 5 B

## CMLT5087E
designator T?, comment <b>DUAL PNP/PNP L87 TRANSISTORS</b> ENHANCED SPECIFICATION PICOmini(TM) SURFACE MOUNT<p> / Source: CMLT5078%20SERIES.pdf
footprint SOT563
part A pins: 1 E, 2 B, 6 C
part B pins: 3 C, 4 E, 5 B

## CMLT5088E
designator T?, comment <b>DUAL NPN/NPN L88 TRANSISTORS</b> ENHANCED SPECIFICATION PICOmini(TM) SURFACE MOUNT<p> / Source: CMLT5078%20SERIES.pdf
footprint SOT563
part A pins: 1 E, 2 B, 6 C
part B pins: 3 C, 4 E, 5 B

## MJ413
designator T?, comment <b>NPN TRANSISTOR</b>
footprint TO3
pins: B, C C/ C, E

## MJ1001
designator T?, comment <b>NPN BIPOLAR DARLINGTON TRANSISTOR</b>
footprint TO3
pins: B, C C/ C, E

## MJ3001
designator T?, comment <b>NPN BIPOLAR DARLINGTON TRANSISTOR</b>
footprint TO3
pins: B, C C/ C, E

## MJ10007
designator T?, comment <b>NPN BIPOLAR DARLINGTON TRANSISTOR</b>
footprint TO3
pins: B, C C/ C, E

## MJD31*
designator T?, comment <b>Complementary Power Transistors</b>
footprint DPAK
pins: 1 B, 3 E, 4 C

## MJD32*
designator T?, comment <b>Complementary Power Transistors</b>
footprint DPAK
pins: 1 B, 3 E, 4 C

## MJE181
designator T?, comment <b>NPN TRANSISTOR</b>
footprint TO225AA
pins: 1 E, 2 C, 3 B

## MJE182
designator T?, comment <b>NPN TRANSISTOR</b>
footprint TO225AA
pins: 1 E, 2 C, 3 B

## MJE340
designator T?, comment <b>NPN TRANSISTOR</b>
footprint TO126
pins: 1 E, 2 C, 3 B

## MJE801
designator T?, comment <b>NPN BIPOLAR DARLINGTON TRANSISTOR</b>
footprint TO126
pins: 1 E, 2 C, 3 B

## NTE103A
designator T?, comment <b>NPN TRANSISTOR</b>
footprint TO18-
pins: 1 E, 2 B, 3 C

## TIP31
designator T?, comment <b>NPN Transistor</b>  Medium Power Linear Switching Applications<p> / Source: http://onsemi.com
footprint TO220
pins: 1 B, 2 C, 3 E

## TIP32
designator T?, comment <b>PNP Transistor</b>  Medium Power Linear Switching Applications<p> / Source: http://onsemi.com
footprint TO220
pins: 1 B, 2 C, 3 E

## TIP122
designator T?, comment <b>NPN BIPOLAR DARLINGTON TRANSISTOR</b>
footprint TO220
pins: 1 B, 2 C, 3 E

## TIP131
designator T?, comment <b>NPN BIPOLAR DARLINGTON TRANSISTOR</b>
footprint TO220
pins: 1 B, 2 C, 3 E